# Altium schematic symbol library PBL - Optical Components.SCHLIB: 6 symbols
Pins are listed as number, name and electrical type; pins without a type are passive.

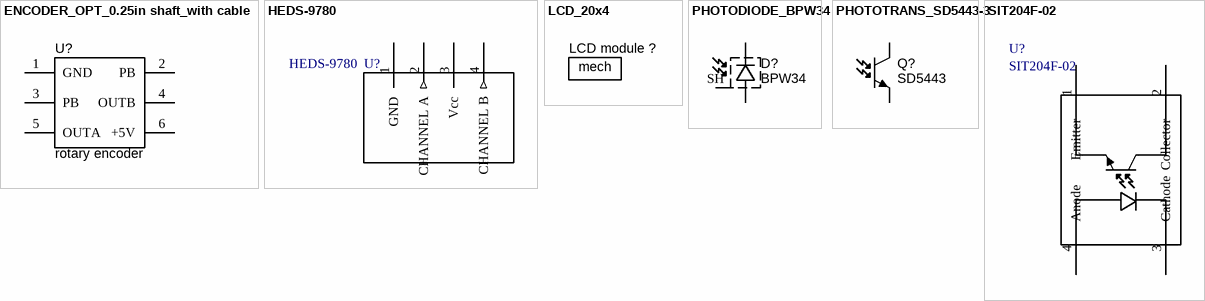
[diagram p0: symbols ENCODER_OPT_0.25in shaft_with cable to SIT204F-02]

## ENCODER_OPT_0.25in shaft_with cable
designator U?, comment rotary encoder  (mechanical)
Encoder optical rotary panel mount no pushbutton; Manufacturer 1: CUI Inc; Manufacturer Part Number 1: C14D32N-B3; Ratings: 5VDC; Actuator Type: 1/4" Dia Flatted End; Detent: Yes; Output Type: Quadrature (Incremental); Pulses per Revolution: 16 or 32; Parameter Name: Cable with Connector; SCDType: undef; Package / Case: Panel Mount; Supplier 1: Digi-Key; Supplier Part Number 1: 102-1913-ND; Built in Switch: No; Encoder Type: Optical; Supplier 2: Digi-Key; Supplier Part Number 2: 102-1922-ND; Manufacturer 2: CUI Inc; Manufacturer Part Number 2: C14D16N-B3; Supplier 3: Digi-Key; Supplier Part Number 3: GH7534-ND; Manufacturer 3: Grayhill Inc; Manufacturer Part Number 3: 62AG22-L0-040C
pins: 1 GND, 2 PB, 3 PB, 4 OUTB, 5 OUTA, 6 +5V

## HEDS-9780
designator U?
Small Optical Encoder Modules; Supplier 1: Digi-Key; Supplier Part Number 1: HEDS-9780#G50-ND
footprint HEDS-9780_module_4_2.54mm (Connector; Header; 4 Position 0.100" pitch)
pins: 1 GND (power), 2 CHANNEL A (out), 3 Vcc (power), 4 CHANNEL B (out)

## LCD_20x4
designator LCD module ?  (value not drawn)  (mechanical)
LCD character display module 20x4; Manufacturer 1: Microtips Technology; Manufacturer Part Number 1: NMTC-S20400XRGHS; SCDType: undef; Supplier 1: Mouser; Supplier Part Number 1: 668-NC-S20400XRGHS
text: mech

## PHOTODIODE_BPW34
designator D?, comment BPW34
Photodiode 30V 50µA TO-5; Manufacturer 1: Vishay/Semiconductors; Ratings: 30V; 50µA; Material: Si; SCDType: undef; Package / Case: TO-5; Mounting Type: Thru-hole; Manufacturer Part Number 1: BPW34; Supplier 1: Digi-Key; Supplier Part Number 1: 751-1015-ND
footprint HDR_Photodiode_TO-5 (Photodiode TO-5 form, edge straddling)
pins: A, K, SH Shield

## PHOTOTRANS_SD5443-3
designator Q?, comment SD5443
Transistor Photo 30V 8mA 150mW TO-46; Manufacturer 1: Honeywell Sensing and Control; Manufacturer Part Number 1: SD5443-003; Ratings: 30V; 8mA; Material: Si; SCDType: undef; Package / Case: TO-46; Value: 8mA; Mounting Type: Thru-hole; Supplier 1: Digi-Key; Supplier Part Number 1: 480-2978-ND
footprint HDR_Phototrans_TO-46 (LED TO-46 form, edge straddling)
pins: 1 E, 3 C

## SIT204F-02
designator U?
Photo Interrupter
footprint SIT204F-02  Photo Interrupter
pins: 1 Emitter, 2 Collector, 3 Cathode, 4 Anode